# EAGLE library part TPS62590 (library texas)
1-A Step Down Converter
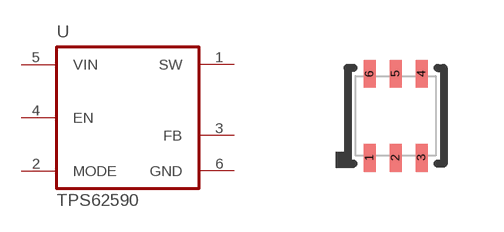
[diagram p58: symbol with the pads of SON06; footprint SON06]

Designator prefix U

## TPS62590DRV  [SON06]
1  SW  out
2  MODE  in
3  FB  in
4  EN  in
5  VIN  in
6  GND  pwr

## Footprint SON06 (pad centres in mm)
SON-6 pitch 0.65 mm, 2x2 mm (S-PWSON-N6)
smd 0.3 x 0.7: 1 -0.65,-1.05; 2 0,-1.05; 3 0.65,-1.05; 4 0.65,1.05; 5 0,1.05; 6 -0.65,1.05